# EAGLE library part CONN_08 (library Ernest_Connectors)
Multi connection point. Often used as Generic Header-pin footprint for 0.1 inch spaced/style header connections
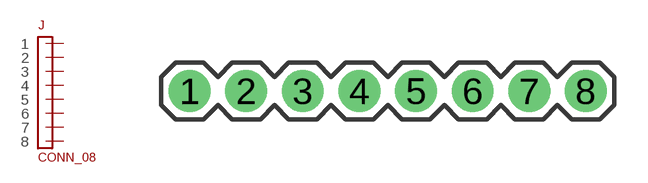
[diagram p3: symbol with the pads of 1X08; footprint 1X08]

Designator prefix J

## CONN_08"  [1X08]
1  1
2  2
3  3
4  4
5  5
6  6
7  7
8  8

## Footprint 1X08 (pad centres in mm)
Plated Through Hole -8 Pin Specifications: Pin count:8 Pin pitch:0.1" Example device(s): CONN_08
drill 1.016 pad 1.88: 1 0,0; 2 2.54,0; 3 5.08,0; 4 7.62,0; 5 10.16,0; 6 12.7,0; 7 15.24,0; 8 17.78,0